# Altium footprint library MOTHERBOARD.PcbLib: 64 footprints (part 3 of 4)
Each footprint in its own frame and in the unit in brackets; x right, y up, seen from the top. Pads: shape width x height; smd on the part's side, far side on the other; paste and mask are expansions set on the pad; w line width, h text height; cw(c..) or ccw(c..) is an arc to the next point about the centre after c.
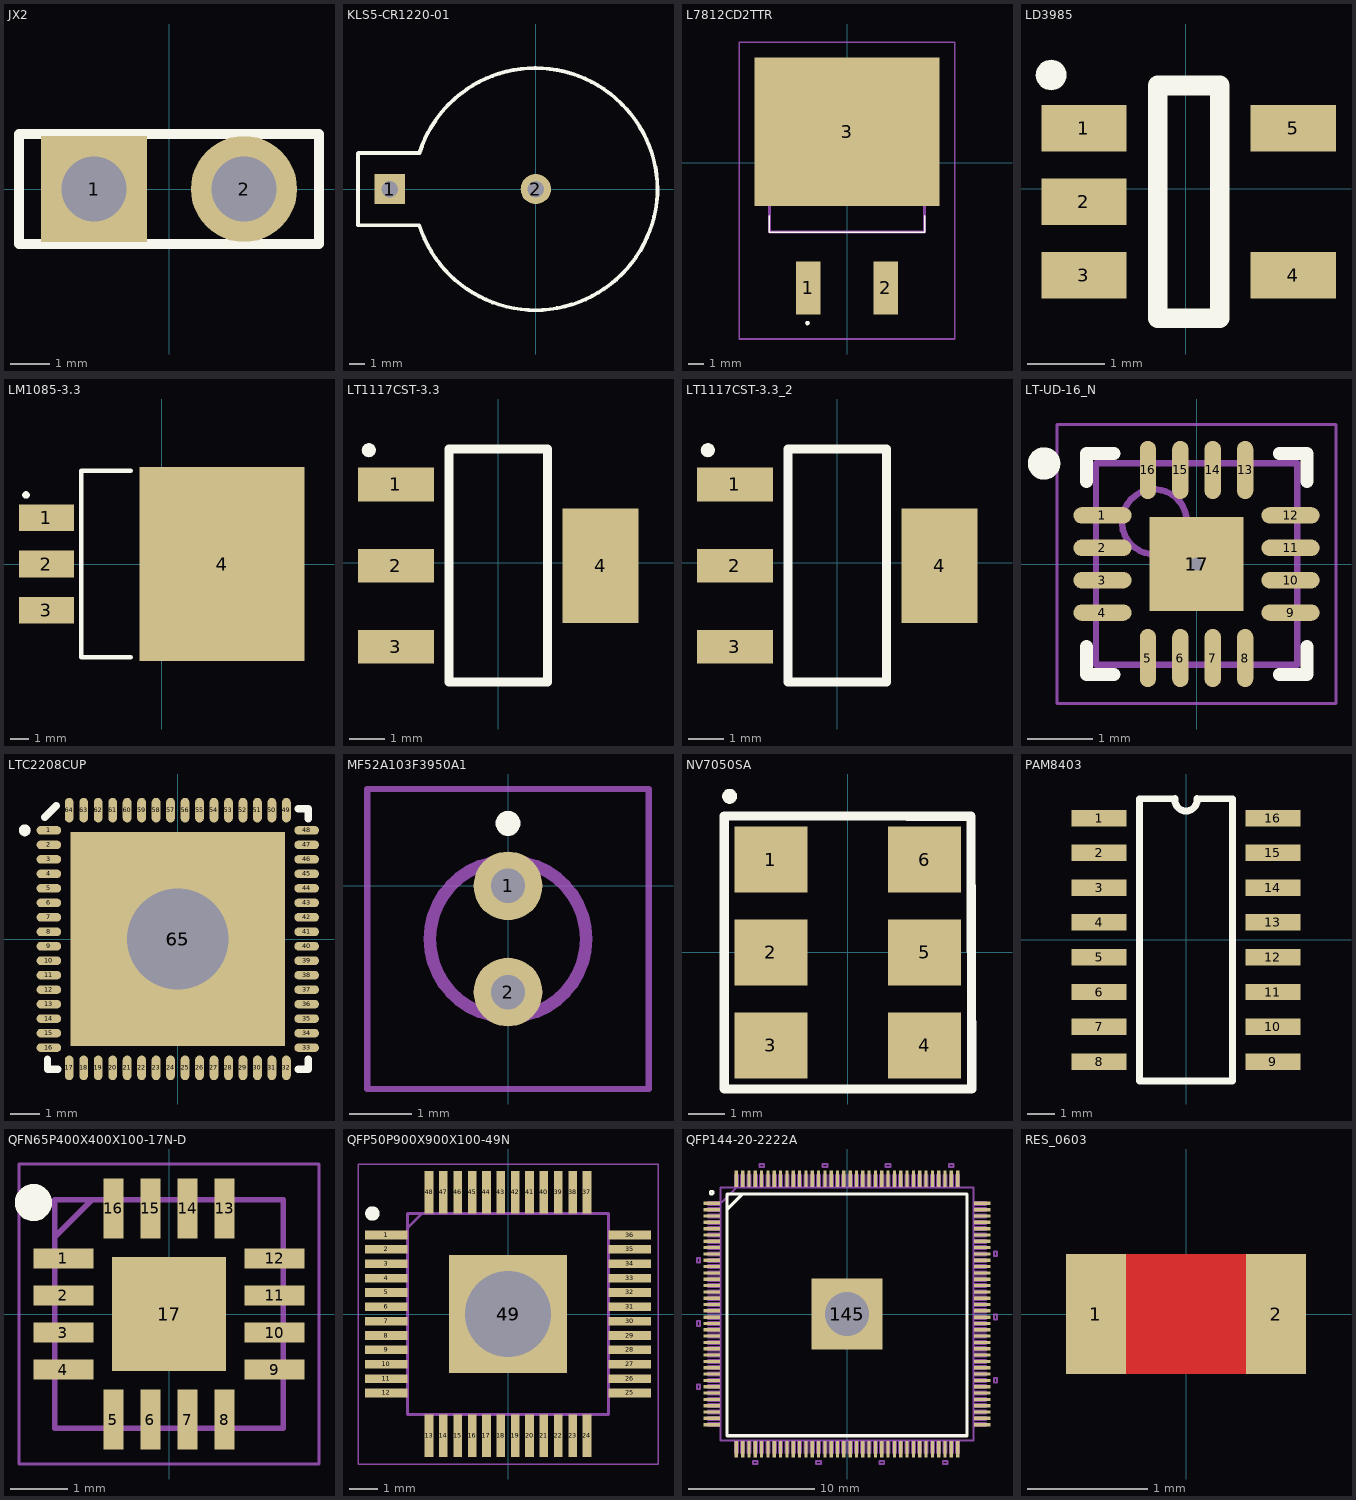
[diagram p2: the footprints below, top view; thin cyan lines are the x and y axes]

## JX2 [mm]
pads (2):
  rect 2.7x2.7 hole 1.65: 1(-1.905,0)
  round 2.7 hole 1.65: 2(1.905,0)
Top Overlay:
  lines w0.254: -3.81,-1.4 -3.81,1.4 3.81,1.4 3.81,-1.4 -3.81,-1.4

## KLS5-CR1220-01 [mm]
pads (2):
  rect 2x2 hole 1.1: 1(-9.65,0)
  round 2 hole 1.1: 2(0,0)
Top Overlay:
  region: -9.021,0.035 -9.025,0.087 -9.039,0.137 -9.061,0.185 -9.091,0.227 -9.128,0.264 -9.171,0.294 -9.218,0.317 -9.269,0.33 -9.321,0.335 -9.373,0.33 -9.423,0.317 -9.471,0.294 -9.513,0.264 -9.55,0.227 -9.58,0.185 -9.602,0.137 -9.616,0.087 -9.621,0.035 -9.616,-0.017 -9.602,-0.068 -9.58,-0.115 -9.55,-0.158 -9.513,-0.195 -9.471,-0.225 -9.423,-0.247 -9.373,-0.261 -9.321,-0.265 -9.269,-0.261 -9.218,-0.247 -9.171,-0.225 -9.128,-0.195 -9.091,-0.158 -9.061,-0.115 -9.039,-0.068 -9.025,-0.017
  lines w0.254: -7.718,-2.387 -11.747,-2.387 -11.747,2.372 -11.727,2.393 -7.682,2.393 cw(c-0.026,-0.031) -0.026,8 ; -7.696,-2.401 ccw(c-0.006,0.08) -0.006,-8 ; -0.052,-8 ccw(c-0.052,0.102) 8.051,0.127 ; -0.046,8 cw(c-0.046,-0.096) 8.049,0.004

## L7812CD2TTR [mm]
pads (3):
  rect 1.6x3.5 smd: 1(-2.54,-8.24) 2(2.54,-8.24)
  rect 12.2x9.75 smd: 3(0,2.035)
Top Overlay:
  lines w0.1: -5.1,-4.575 -5.1,-3.5 -5.1,-4.575 ; -5.1,-4.575 5.1,-4.575 ; -5.1,-4.575 5.1,-4.575 ; 5.1,-4.575 5.1,-3.5 5.1,-4.575
  lines w0.2: -2.6,-10.6 cw(c-2.6,-10.55) -2.6,-10.5 ; -2.6,-10.6 ccw(c-2.6,-10.55) -2.6,-10.5 ; -2.6,-10.6 cw(c-2.6,-10.55) -2.6,-10.5
Mechanical 13:
  lines w0.2: -5.1,-4.575 5.1,-4.575 5.1,4.575 -5.1,4.575 -5.1,-4.575
Mechanical 15:
  lines w0.1: -7.1,-11.6 7.1,-11.6 7.1,7.91 -7.1,7.91 -7.1,-11.6

## LD3985 [mm]
pads (5):
  rect 1.1x0.6 smd: 1(-1.316,0.785) 2(-1.316,-0.165) 3(-1.316,-1.115) 4(1.384,-1.115) 5(1.384,0.785)
Top Overlay:
  region: -1.543,1.469 -1.546,1.503 -1.555,1.536 -1.569,1.567 -1.589,1.595 -1.613,1.619 -1.641,1.638 -1.672,1.653 -1.704,1.662 -1.738,1.665 -1.772,1.662 -1.805,1.653 -1.836,1.638 -1.864,1.619 -1.888,1.595 -1.908,1.567 -1.922,1.536 -1.931,1.503 -1.934,1.469 -1.931,1.435 -1.922,1.402 -1.908,1.371 -1.888,1.343 -1.864,1.319 -1.836,1.3 -1.805,1.285 -1.772,1.276 -1.738,1.273 -1.704,1.276 -1.672,1.285 -1.641,1.3 -1.613,1.319 -1.589,1.343 -1.569,1.371 -1.555,1.402 -1.546,1.435
  lines w0.254: -0.365,-1.665 -0.365,1.335 0.435,1.335 0.435,-1.665 -0.365,-1.665

## LM1085-3.3 [mm]
pads (4):
  rect 3x1.45 smd: 1(-6.3,2.54) 2(-6.3,0) 3(-6.3,-2.54)
  rect 9x10.6 smd: 4(3.3,0)
Top Overlay:
  region: -7.223,3.776 -7.226,3.81 -7.235,3.843 -7.249,3.874 -7.269,3.902 -7.293,3.926 -7.321,3.946 -7.352,3.96 -7.385,3.969 -7.419,3.972 -7.453,3.969 -7.485,3.96 -7.517,3.946 -7.544,3.926 -7.569,3.902 -7.588,3.874 -7.603,3.843 -7.611,3.81 -7.614,3.776 -7.611,3.742 -7.603,3.709 -7.588,3.678 -7.569,3.651 -7.544,3.626 -7.517,3.607 -7.485,3.592 -7.453,3.584 -7.419,3.581 -7.385,3.584 -7.352,3.592 -7.321,3.607 -7.293,3.626 -7.269,3.651 -7.249,3.678 -7.235,3.709 -7.226,3.742
  lines w0.254: -1.7,-5.1 -4.401,-5.1 -4.401,5.1 -1.7,5.1

## LT1117CST-3.3 [mm]
pads (4):
  rect 2.15x0.95 smd: 1(-2.9,2.215) 2(-2.9,-0.085) 3(-2.9,-2.385)
  rect 2.15x3.25 smd: 4(2.9,-0.085)
Top Overlay:
  region: -3.471,3.189 -3.474,3.223 -3.483,3.256 -3.497,3.287 -3.517,3.315 -3.541,3.339 -3.569,3.358 -3.6,3.373 -3.633,3.381 -3.667,3.384 -3.701,3.381 -3.734,3.373 -3.765,3.358 -3.793,3.339 -3.817,3.315 -3.837,3.287 -3.851,3.256 -3.86,3.223 -3.863,3.189 -3.86,3.155 -3.851,3.122 -3.837,3.091 -3.817,3.063 -3.793,3.039 -3.765,3.019 -3.734,3.005 -3.701,2.996 -3.667,2.993 -3.633,2.996 -3.6,3.005 -3.569,3.019 -3.541,3.039 -3.517,3.063 -3.497,3.091 -3.483,3.122 -3.474,3.155
  lines w0.254: -1.4,-3.384 1.4,-3.384 1.4,3.215 -1.4,3.215 -1.4,-3.384

## LT1117CST-3.3_2 [mm]
pads (4):
  rect 2.15x0.95 smd: 1(-2.9,2.215) 2(-2.9,-0.085) 3(-2.9,-2.385)
  rect 2.15x3.25 smd: 4(2.9,-0.085)
Top Overlay:
  region: -3.471,3.189 -3.474,3.223 -3.483,3.256 -3.497,3.287 -3.517,3.315 -3.541,3.339 -3.569,3.358 -3.6,3.373 -3.633,3.381 -3.667,3.384 -3.701,3.381 -3.734,3.373 -3.765,3.358 -3.793,3.339 -3.817,3.315 -3.837,3.287 -3.851,3.256 -3.86,3.223 -3.863,3.189 -3.86,3.155 -3.851,3.122 -3.837,3.091 -3.817,3.063 -3.793,3.039 -3.765,3.019 -3.734,3.005 -3.701,2.996 -3.667,2.993 -3.633,2.996 -3.6,3.005 -3.569,3.019 -3.541,3.039 -3.517,3.063 -3.497,3.091 -3.483,3.122 -3.474,3.155
  lines w0.254: -1.4,-3.384 -1.4,3.215 1.4,3.215 1.4,-3.384 -1.4,-3.384

## LT-UD-16_N [mm] "QFN, 16-Leads, Body 3x3mm, Pitch 0.5mm, Thermal Pad 1.45x1.45mm, IPC Medium Density"
height 0.8
pads (18):
  oval 0.9x0.25 smd: 1(-1.45,0.75) 2(-1.45,0.25) 3(-1.45,-0.25) 4(-1.45,-0.75) 9(1.45,-0.75) 10(1.45,-0.25) 11(1.45,0.25) 12(1.45,0.75)
  oval 0.25x0.9 smd: 5(-0.75,-1.45) 6(-0.25,-1.45) 7(0.25,-1.45) 8(0.75,-1.45) 13(0.75,1.45) 14(0.25,1.45) 15(-0.25,1.45) 16(-0.75,1.45)
  rect 1.45x1.45 smd: 17(0,0)
  round 0.5 hole 0.2: 17(0,0)
Top Overlay:
  circle w0.25: c-2.35,1.55 r0.125
  lines w0.2: -1.7,-1.275 -1.7,-1.7 -1.275,-1.7 ; -1.7,1.275 -1.7,1.7 -1.275,1.7 ; 1.275,-1.7 1.7,-1.7 1.7,-1.275 ; 1.275,1.7 1.7,1.7 1.7,1.275
Mechanical 13:
  circle w0.1: c-0.65,0.65 r0.5
  lines w0.1: -1.55,-1.55 1.55,-1.55 1.55,1.55 -1.55,1.55 -1.55,-1.55
Mechanical 15:
  lines w0.05: -2.15,-2.15 2.15,-2.15 2.15,2.15 -2.15,2.15 -2.15,-2.15
  lines w0.1: -0.5,0 0.5,0 ; 0,-0.5 0,0.5
3D body: height 0.8, standoff 0, extent -1.55,-1.55 1.55,1.55

## LTC2208CUP [mm]
pads (66):
  oval 0.85x0.3 smd: 1(-4.45,3.75) 2(-4.45,3.25) 3(-4.45,2.75) 4(-4.45,2.25) 5(-4.45,1.75) 6(-4.45,1.25) 7(-4.45,0.75) 8(-4.45,0.25) 9(-4.45,-0.25) 10(-4.45,-0.75) 11(-4.45,-1.25) 12(-4.45,-1.75) 13(-4.45,-2.25) 14(-4.45,-2.75) 15(-4.45,-3.25) 16(-4.45,-3.75) 33(4.45,-3.75) 34(4.45,-3.25) 35(4.45,-2.75) 36(4.45,-2.25) 37(4.45,-1.75) 38(4.45,-1.25) 39(4.45,-0.75) 40(4.45,-0.25) 41(4.45,0.25) 42(4.45,0.75) 43(4.45,1.25) 44(4.45,1.75) 45(4.45,2.25) 46(4.45,2.75) 47(4.45,3.25) 48(4.45,3.75)
  oval 0.3x0.85 smd: 17(-3.75,-4.45) 18(-3.25,-4.45) 19(-2.75,-4.45) 20(-2.25,-4.45) 21(-1.75,-4.45) 22(-1.25,-4.45) 23(-0.75,-4.45) 24(-0.25,-4.45) 25(0.25,-4.45) 26(0.75,-4.45) 27(1.25,-4.45) 28(1.75,-4.45) 29(2.25,-4.45) 30(2.75,-4.45) 31(3.25,-4.45) 32(3.75,-4.45) 49(3.75,4.45) 50(3.25,4.45) 51(2.75,4.45) 52(2.25,4.45) 53(1.75,4.45) 54(1.25,4.45) 55(0.75,4.45) 56(0.25,4.45) 57(-0.25,4.45) 58(-0.75,4.45) 59(-1.25,4.45) 60(-1.75,4.45) 61(-2.25,4.45) 62(-2.75,4.45) 63(-3.25,4.45) 64(-3.75,4.45)
  round 4 hole 3.5: 65(0,0)
  rect 7.4x7.4 smd: 65(0,0)
Top Overlay:
  region: -5.082,3.75 -5.085,3.785 -5.094,3.819 -5.109,3.85 -5.129,3.879 -5.154,3.903 -5.182,3.923 -5.214,3.938 -5.247,3.947 -5.282,3.95 -5.316,3.947 -5.35,3.938 -5.381,3.923 -5.41,3.903 -5.435,3.879 -5.454,3.85 -5.469,3.819 -5.478,3.785 -5.481,3.75 -5.478,3.716 -5.469,3.682 -5.454,3.651 -5.435,3.622 -5.41,3.598 -5.381,3.578 -5.35,3.563 -5.316,3.554 -5.282,3.551 -5.247,3.554 -5.214,3.563 -5.182,3.578 -5.154,3.598 -5.129,3.622 -5.109,3.651 -5.094,3.682 -5.085,3.716
  lines w0.254: -4.596,4.2 -4.197,4.6 ; -4.495,-4.15 -4.495,-4.5 -4.145,-4.5 ; 4.15,-4.5 4.5,-4.5 4.5,-4.15 ; 4.15,4.5 4.5,4.5 4.5,4.15
3D body "QFN-64_UP_LIT.step": height 0.8, standoff 0, extent -4.55,-4.55 4.55,4.55

## MF52A103F3950A1 [mm]
pads (2):
  round 1.1 hole 0.55: 1(0,0) 2(0,-1.7)
Top Overlay:
  lines w0.2: -0.1,1 ccw(c0,1) 0.1,1 ccw(c0,1) -0.1,1
Mechanical 13:
  lines w0.2: -1.25,-0.85 ccw(c0,-0.85) 1.25,-0.85 ccw(c0,-0.85) -1.25,-0.85
Mechanical 15:
  lines w0.1: -2.25,-3.25 2.25,-3.25 2.25,1.55 -2.25,1.55 -2.25,-3.25
3D body "MF52A103F3950_A1_.stp": height 4.1, standoff -5, extent -1.25,-2.1 1.25,0.4

## NV7050SA [mm]
pads (6):
  rect 2x1.8 smd: 1(-2.1,2.54) 2(-2.1,0) 3(-2.1,-2.54) 4(2.1,-2.54) 5(2.1,0) 6(2.1,2.54)
Top Overlay:
  region: -3.026,4.268 -3.029,4.302 -3.038,4.336 -3.053,4.368 -3.073,4.396 -3.098,4.421 -3.126,4.441 -3.158,4.456 -3.192,4.465 -3.227,4.468 -3.261,4.465 -3.295,4.456 -3.327,4.441 -3.355,4.421 -3.38,4.396 -3.4,4.368 -3.415,4.336 -3.424,4.302 -3.427,4.268 -3.424,4.233 -3.415,4.199 -3.4,4.168 -3.38,4.139 -3.355,4.114 -3.327,4.094 -3.295,4.079 -3.261,4.07 -3.227,4.068 -3.192,4.07 -3.158,4.079 -3.126,4.094 -3.098,4.114 -3.073,4.139 -3.053,4.168 -3.038,4.199 -3.029,4.233
  lines w0.254: -3.375,-3.721 3.388,-3.731 3.369,3.722 1.624,3.722 -3.375,3.731 -3.375,-3.721
3D body "VG-4513CA122_8800M-GGCT3_EPS.step": height 1.81, standoff 0, extent -2.6,-3.594 2.6,3.594

## PAM8403 [mm]
pads (16):
  rect 2x0.6 smd: 1(-3.175,4.445) 2(-3.175,3.175) 3(-3.175,1.905) 4(-3.175,0.635) 5(-3.175,-0.635) 6(-3.175,-1.905) 7(-3.175,-3.175) 8(-3.175,-4.445) 9(3.175,-4.445) 10(3.175,-3.175) 11(3.175,-1.905) 12(3.175,-0.635) 13(3.175,0.635) 14(3.175,1.905) 15(3.175,3.175) 16(3.175,4.445)
Top Overlay:
  lines w0.254: -0.4,5.15 -1.7,5.15 -1.7,-5.15 1.7,-5.15 1.7,5.15 0.4,5.15 ; -0.4,5.152 ccw(c0,5.103) 0.4,5.152

## QFN65P400X400X100-17N-D [mm]
pads (17):
  rect 1.05x0.35 smd: 1(-1.85,0.975) 2(-1.85,0.325) 3(-1.85,-0.325) 4(-1.85,-0.975) 9(1.85,-0.975) 10(1.85,-0.325) 11(1.85,0.325) 12(1.85,0.975)
  rect 0.35x1.05 smd: 5(-0.975,-1.85) 6(-0.325,-1.85) 7(0.325,-1.85) 8(0.975,-1.85) 13(0.975,1.85) 14(0.325,1.85) 15(-0.325,1.85) 16(-0.975,1.85)
  rect 2x2 smd: 17(0,0)
Top Overlay:
  circle w0.325: c-2.375,1.95 r0.162
Mechanical 13:
  lines w0.1: -2,1.35 -1.35,2 ; -2,-2 2,-2 2,2 -2,2 -2,-2
Mechanical 15:
  lines w0.05: -2.625,-2.625 2.625,-2.625 2.625,2.625 -2.625,2.625 -2.625,-2.625
3D body "OPA2673IRGVT.stp": height 1, standoff 0, extent -2.05,-2.05 2.05,2.05

## QFP50P900X900X100-49N [mm]
pads (50):
  rect 1.475x0.3 smd: 1(-4.238,2.75) 2(-4.238,2.25) 3(-4.238,1.75) 4(-4.238,1.25) 5(-4.238,0.75) 6(-4.238,0.25) 7(-4.238,-0.25) 8(-4.238,-0.75) 9(-4.238,-1.25) 10(-4.238,-1.75) 11(-4.238,-2.25) 12(-4.238,-2.75) 25(4.238,-2.75) 26(4.238,-2.25) 27(4.238,-1.75) 28(4.238,-1.25) 29(4.238,-0.75) 30(4.238,-0.25) 31(4.238,0.25) 32(4.238,0.75) 33(4.238,1.25) 34(4.238,1.75) 35(4.238,2.25) 36(4.238,2.75)
  rect 0.3x1.475 smd: 13(-2.75,-4.238) 14(-2.25,-4.238) 15(-1.75,-4.238) 16(-1.25,-4.238) 17(-0.75,-4.238) 18(-0.25,-4.238) 19(0.25,-4.238) 20(0.75,-4.238) 21(1.25,-4.238) 22(1.75,-4.238) 23(2.25,-4.238) 24(2.75,-4.238) 37(2.75,4.238) 38(2.25,4.238) 39(1.75,4.238) 40(1.25,4.238) 41(0.75,4.238) 42(0.25,4.238) 43(-0.25,4.238) 44(-0.75,4.238) 45(-1.25,4.238) 46(-1.75,4.238) 47(-2.25,4.238) 48(-2.75,4.238)
  rect 4.1x4.1 smd: 49(0,0)
  round 3.5 hole 3: 49(0,0)
Top Overlay:
  circle w0.25: c-4.725,3.5 r0.125
Mechanical 13:
  lines w0.1: -3.5,3 -3,3.5 ; -3.5,-3.5 3.5,-3.5 3.5,3.5 -3.5,3.5 -3.5,-3.5
Mechanical 15:
  lines w0.05: -5.225,-5.225 5.225,-5.225 5.225,5.225 -5.225,5.225 -5.225,-5.225
3D body "DAC5674IPHP.stp": height 1, standoff 0, extent -4.5,-4.5 4.5,4.5

## QFP144-20-2222A [mil]
height 137.8
pads (146):
  rect 52x10 smd: 1(-421.26,344.48) 2(-421.26,324.8) 3(-421.26,305.11) 4(-421.26,285.43) 5(-421.26,265.74) 6(-421.26,246.06) 7(-421.26,226.37) 8(-421.26,206.69) 9(-421.26,187) 10(-421.26,167.32) 11(-421.26,147.64) 12(-421.26,127.95) 13(-421.26,108.27) 14(-421.26,88.58) 15(-421.26,68.9) 16(-421.26,49.21) 17(-421.26,29.53) 18(-421.26,9.84) 19(-421.26,-9.84) 20(-421.26,-29.53) 21(-421.26,-49.22) 22(-421.26,-68.9) 23(-421.26,-88.59) 24(-421.26,-108.27) 25(-421.26,-127.96) 26(-421.26,-147.64) 27(-421.26,-167.33) 28(-421.26,-187.01) 29(-421.26,-206.7) 30(-421.26,-226.38) 31(-421.26,-246.07) 32(-421.26,-265.75) 33(-421.26,-285.44) 34(-421.26,-305.12) 35(-421.26,-324.81) 36(-421.26,-344.49) 73(421.26,-344.49) 74(421.26,-324.81) 75(421.26,-305.12) 76(421.26,-285.44) 77(421.26,-265.75) 78(421.26,-246.07) 79(421.26,-226.38) 80(421.26,-206.7) 81(421.26,-187.01) 82(421.26,-167.33) 83(421.26,-147.64) 84(421.26,-127.96) 85(421.26,-108.27) 86(421.26,-88.59) 87(421.26,-68.9) 88(421.26,-49.22) 89(421.26,-29.53) 90(421.26,-9.84) 91(421.26,9.84) 92(421.26,29.53) 93(421.26,49.21) 94(421.26,68.9) 95(421.26,88.58) 96(421.26,108.27) 97(421.26,127.95) 98(421.26,147.64) 99(421.26,167.32) 100(421.26,187) 101(421.26,206.69) 102(421.26,226.37) 103(421.26,246.06) 104(421.26,265.74) 105(421.26,285.43) 106(421.26,305.11) 107(421.26,324.8) 108(421.26,344.48)
  rect 10x52 smd: 37(-344.49,-421.26) 38(-324.8,-421.26) 39(-305.12,-421.26) 40(-285.43,-421.26) 41(-265.75,-421.26) 42(-246.06,-421.26) 43(-226.38,-421.26) 44(-206.69,-421.26) 45(-187.01,-421.26) 46(-167.32,-421.26) 47(-147.64,-421.26) 48(-127.95,-421.26) 49(-108.27,-421.26) 50(-88.58,-421.26) 51(-68.9,-421.26) 52(-49.21,-421.26) 53(-29.53,-421.26) 54(-9.84,-421.26) 55(9.84,-421.26) 56(29.53,-421.26) 57(49.21,-421.26) 58(68.9,-421.26) 59(88.58,-421.26) 60(108.27,-421.26) 61(127.95,-421.26) 62(147.64,-421.26) 63(167.32,-421.26) 64(187.01,-421.26) 65(206.69,-421.26) 66(226.38,-421.26) 67(246.06,-421.26) 68(265.75,-421.26) 69(285.43,-421.26) 70(305.12,-421.26) 71(324.8,-421.26) 72(344.49,-421.26) 109(344.49,421.26) 110(324.8,421.26) 111(305.12,421.26) 112(285.43,421.26) 113(265.75,421.26) 114(246.06,421.26) 115(226.38,421.26) 116(206.69,421.26) 117(187.01,421.26) 118(167.32,421.26) 119(147.64,421.26) 120(127.95,421.26) 121(108.27,421.26) 122(88.58,421.26) 123(68.9,421.26) 124(49.21,421.26) 125(29.53,421.26) 126(9.84,421.26) 127(-9.84,421.26) 128(-29.53,421.26) 129(-49.21,421.26) 130(-68.9,421.26) 131(-88.58,421.26) 132(-108.27,421.26) 133(-127.95,421.26) 134(-147.64,421.26) 135(-167.32,421.26) 136(-187.01,421.26) 137(-206.69,421.26) 138(-226.38,421.26) 139(-246.06,421.26) 140(-265.75,421.26) 141(-285.43,421.26) 142(-305.12,421.26) 143(-324.8,421.26) 144(-344.49,421.26)
  rect 220x220 smd: 145(0.01,-0.02)
  round 157.48 hole 137.8: 145(0.01,-0.02)
Top Overlay:
  circle w7.87: c-421.26,377.95 r4.92
  lines w10: -324.8,374.02 -374.02,324.8 -374.02,374.02 ; -374.02,374.02 -374.02,-378.94 -184.06,-378.94 374.02,-378.94 374.02,324.8 374.02,374.02 -374.02,374.02
Mechanical 15:
  drawing of 648 lines, arcs and shapes, not listed
  text "*" at -495,394 h50
  text "*" at -495,394 h50
3D body: height 64.96, standoff 1.97, extent -393.69,-393.72 393.71,393.69

## RES_0603 [mm] "Thin Film, Rectangular Resisitor Chip, Body 1.6 x 0.9 mm (L x W)"
height 0.4
pads (2):
  rect 0.5x1 smd: 1(-0.75,0) 2(0.75,0)
Top Layer:
  pour cut-out: -0.5,0.5 0.5,0.5 0.5,-0.5 -0.5,-0.5
Mechanical 13:
  lines w0.1: -0.8,-0.45 -0.8,0.45 0.8,0.45 0.8,-0.45 -0.8,-0.45
3D body "SMD 0603.STEP": height 0.45, standoff -0.01, extent -0.8,-0.4 0.8,0.4